# Altium footprint library WLCSP-6.PcbLib: 1 footprints
Each footprint in its own frame and in the unit in brackets; x right, y up, seen from the top. Pads: shape width x height; smd on the part's side, far side on the other; paste and mask are expansions set on the pad; w line width, h text height; cw(c..) or ccw(c..) is an arc to the next point about the centre after c.
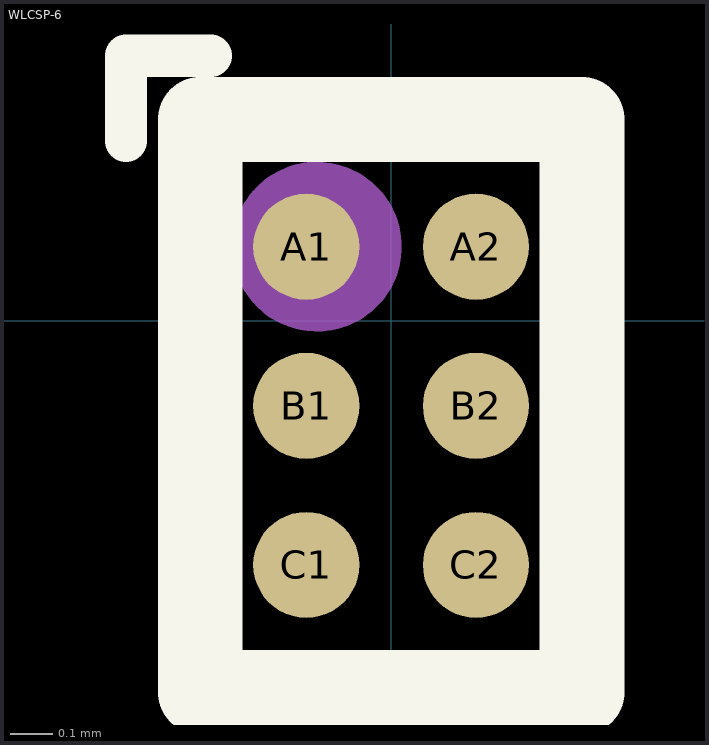
[diagram p0: the footprint, top view; thin cyan lines are the x and y axes]

## WLCSP-6 [mm]
height 0.9
pads (6):
  round 0.25 smd mask+0.005: A1(-0.2,0.175) A2(0.2,0.175) B1(-0.2,-0.2) B2(0.2,-0.2) C1(-0.2,-0.575) C2(0.2,-0.575)
Top Overlay:
  lines w0.1: -0.625,0.425 -0.625,0.625 -0.425,0.625
  lines w0.2: -0.45,-0.875 -0.45,0.475 0.45,0.475 0.45,-0.875 -0.45,-0.875
Top Assembly:
  circle w0.2: c-0.175,0.175 r0.1
  lines w0.1: -0.45,-0.875 -0.45,0.475 0.45,0.475 0.45,-0.875 -0.45,-0.875
  text "'.Designator'" at 0,-0.2 h0.7
3D body "TPS6283810YFPT.stp": height 0.5, standoff 0, extent -0.38,-0.78 0.38,0.38